# Altium schematic symbol library SCH_Passive.SchLib: 27 symbols
Pins are listed as number, name and electrical type; pins without a type are passive.

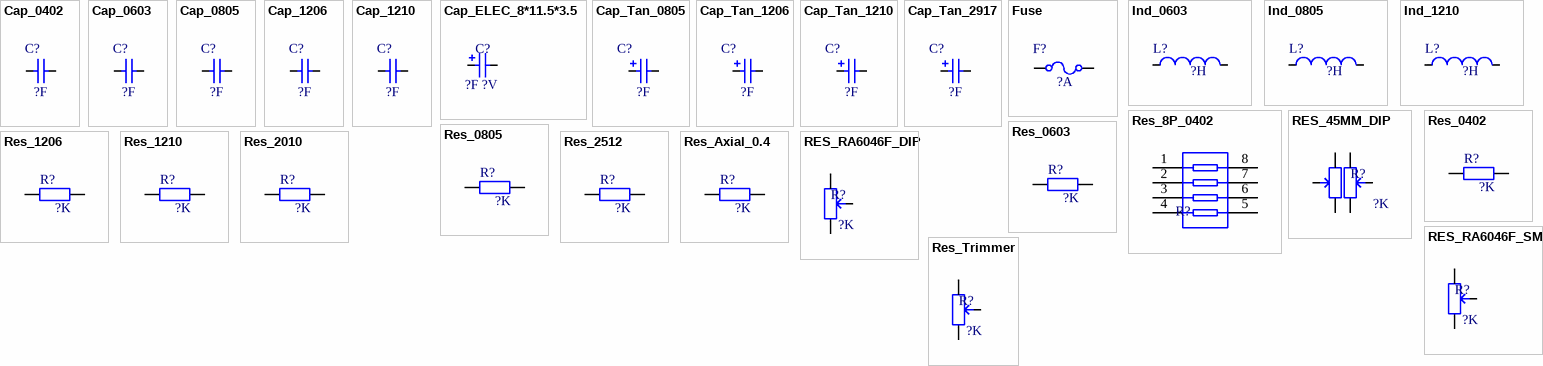
[diagram p0: symbols Cap_0402 to Res_Trimmer]

## Cap_0402
designator C?  value ?F  (hidden comment: Cap_0402)
Capacitor
footprint CAP_0402 (Chip Capacitor, Body 1.0x0.5mm, 0402, IPC Medium Density)
pins: 1, 2

## Cap_0603
designator C?  value ?F  (hidden comment: Cap_0603)
Capacitor
footprint CAP_0603 (Chip Capacitor, Body 1.6x0.8mm, 0603, IPC Medium Density)
pins: 1, 2

## Cap_0805
designator C?  value ?F  (hidden comment: Cap_0805)
Capacitor
footprint CAP_0805 (Chip Capacitor, Body 2.0x1.2mm, 0805, IPC Medium Density)
pins: 1, 2

## Cap_1206
designator C?  value ?F  (hidden comment: Cap_1206)
Capacitor
footprint CAP_1206 (Chip Capacitor, Body 3.2x1.6mm, 1206, IPC Medium Density)
pins: 1, 2

## Cap_1210
designator C?  value ?F  (hidden comment: Cap_1210)
Capacitor
footprint CAP_1210 (Chip Capacitor, Body 3.2x2.5mm, 1210, IPC Medium Density)
pins: 1, 2

## Cap_ELEC_8*11.5*3.5
designator C?, comment value ?F ?V  (hidden comment: Capacitor)
Cap_ELEC_8*11.5*3.5
footprint CAP_ELEC_F3.5_D8_H11.5
pins: 1, 2

## Cap_Tan_0805
designator C?  value ?F  (hidden comment: Cap_Tan_0805)
Capacitor
footprint CAP_TAN_P0805 (Molded body capacitor, Body 2.0x1.2mm, 0805, IPC Medium Density)
pins: 1, 2
1 alternate drawing of the same symbol

## Cap_Tan_1206
designator C?  value ?F  (hidden comment: Cap_Tan_1206)
Capacitor
footprint CAP_TAN_A1206 (Capacitor, polarized, Molded Body, EIA 535BAAC size A; 3.20mm L X 1.60mm W X 1.80mm H)
pins: 1, 2
1 alternate drawing of the same symbol

## Cap_Tan_1210
designator C?  value ?F  (hidden comment: Cap_Tan_1210)
Capacitor
footprint CAP_TAN_B1210 (Molded body capacitor, Body 3.5x2.8mm, 1210, IPC Nominal settings)
pins: 1, 2
1 alternate drawing of the same symbol

## Cap_Tan_2917
designator C?  value ?F  (hidden comment: Cap_Tan_2917)
Capacitor
footprint CAP_TAN_D2917 (Molded body capacitor, Body 7.3x4.3mm, 2917, IPC Nominal settings)
pins: 1, 2
1 alternate drawing of the same symbol

## Fuse
designator F?  value ?A  (hidden comment: Fuse)
footprint FUSE_1206 (Chip Capacitor, Body 3.2x1.6mm, 1206, IPC Medium Density)
pins: 1, 2

## Ind_0603
designator L?  value ?H  (hidden comment: Ind_0603)
Inductor
footprint IND_0603 (Chip bead, Body 1.6x0.8mm, 0603, IPC Medium Density)
pins: 1, 2

## Ind_0805
designator L?  value ?H  (hidden comment: Ind_0805)
Inductor
footprint IND_0805 (Ferrite Bead Chip, Body 2.0x1.2mm, 0805, IPC Medium Density)
pins: 1, 2

## Ind_1210
designator L?  value ?H  (hidden comment: Ind_1210)
Inductor
footprint IND_1210 (Chip Inductor, 2-Leads, Body 3.2x2.5mm, IPC Medium Density)
pins: 1, 2

## Res_8P_0402
designator R?  (value not drawn)
Resistor
footprint Res_8P_0402
pins: 1, 2, 3, 4, 5, 6, 7, 8

## RES_45MM_DIP
designator R?  value ?K  (hidden comment: RES_45MM_DIP)
Resistor
footprint RES_45MM_DIP
pins: 1 U, 2 W, 3 U, 4 W, 5 D, 6 D

## Res_0402
designator R?  value ?K  (hidden comment: Res_0402)
Resistor
footprint RES_0402 (Chip Resistor, Body 1.0x0.5mm, EIA 0402, IPC Medium Density)
pins: 1, 2

## Res_0603
designator R?  value ?K  (hidden comment: Res_0603)
Resistor
footprint RES_0603
pins: 1, 2

## Res_0805
designator R?  value ?K  (hidden comment: Res_0805)
Resistor
footprint RES_0805 (Chip Resistor, Body 2.0x1.2mm, 0805, IPC Medium Density)
pins: 1, 2

## Res_1206
designator R?  value ?K  (hidden comment: Res_1206)
Resistor
footprint RES_1206 (Chip Resistor, Body 3.2x1.6mm, 1206, IPC Medium Density)
pins: 1, 2

## Res_1210
designator R?  value ?K  (hidden comment: Res_1210)
Resistor
footprint RES_1210 (Chip Resistor, Body 3.2x2.5mm, 1210, IPC Medium Density)
pins: 1, 2

## Res_2010
designator R?  value ?K  (hidden comment: Res_2010)
Resistor
footprint RES_2010 (Chip Resistor, Body 5.0x2.5mm, 2010, IPC Medium Density)
pins: 1, 2

## Res_2512
designator R?  value ?K  (hidden comment: Res_2512)
Resistor
footprint RES_2512 (Chip Resistor, Body 6.3x3.2mm, 2512, IPC Medium Density)
pins: 1, 2

## Res_Axial_0.4
designator R?  value ?K  (hidden comment: Res_Axial_0.4)
Resistor
footprint RES_AXIAL_0.4
pins: 1, 2

## RES_RA6046F_DIP
designator R?  value ?K  (hidden comment: RES_RA6046F_DIP)
Resistor
footprint RES_RA6046F_DIP
pins: 1 CCW, 2 W, 3 CW

## RES_RA6046F_SMD
designator R?  value ?K  (hidden comment: RES_RA6046F_SMD)
Resistor
footprint RES_RA6046F_SMD
pins: 1 D, 4 U, 5 W

## Res_Trimmer
designator R?  value ?K  (hidden comment: Res_Trimmer)
Resistor
footprint RES_TRIMMER (TRIMMER, MURATA, PV36Y)
pins: 1 CCW, 2 W, 3 CW